# Altium footprint library GPS_PcbLib.PcbLib: 7 footprints
Each footprint in its own frame and in the unit in brackets; x right, y up, seen from the top. Pads: shape width x height; smd on the part's side, far side on the other; paste and mask are expansions set on the pad; w line width, h text height; cw(c..) or ccw(c..) is an arc to the next point about the centre after c.
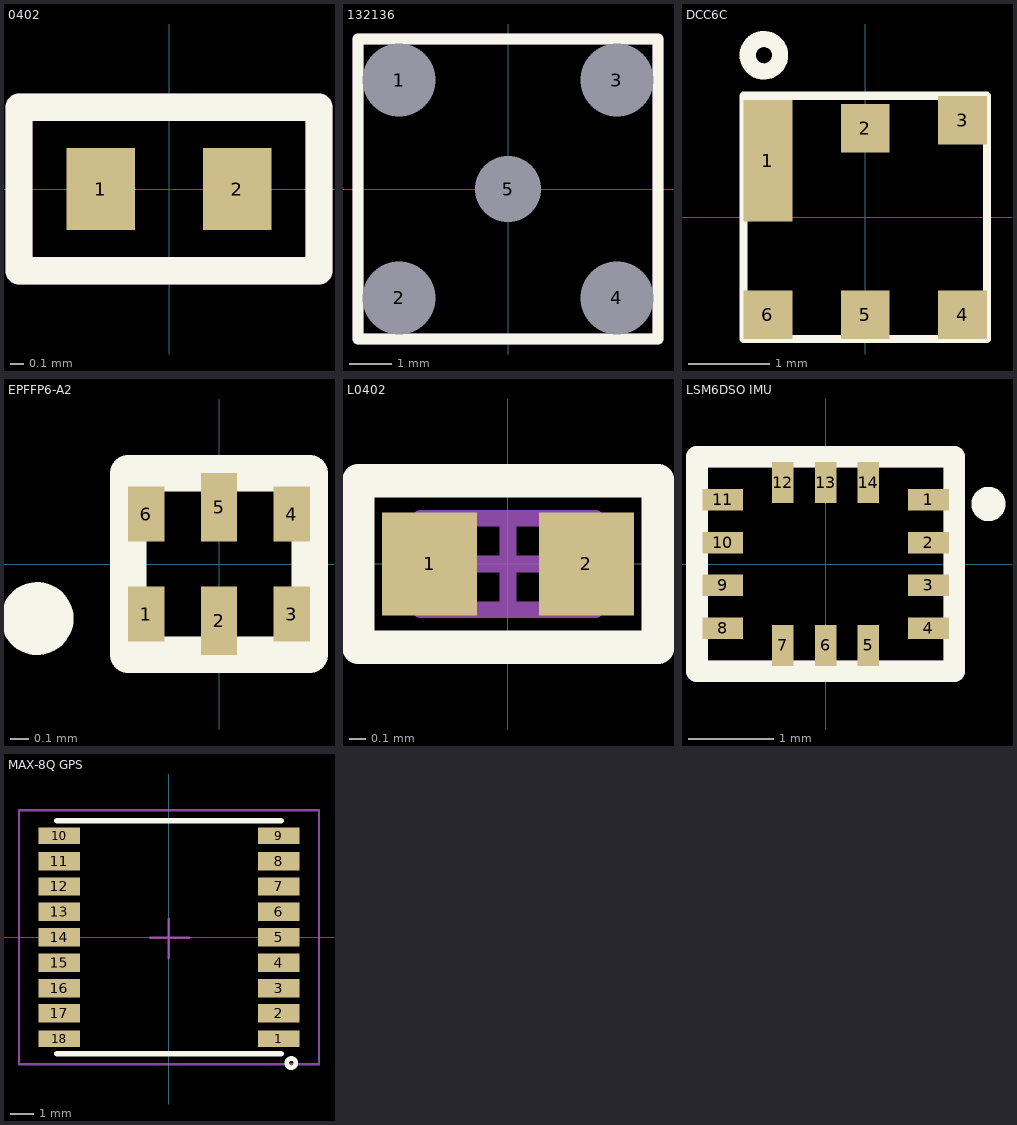
[diagram p0: the footprints below, top view; thin cyan lines are the x and y axes]

## 0402 [mm]
pads (2):
  rect 0.5x0.6 smd: 1(-0.5,0) 2(0.5,0)
Top Overlay:
  lines w0.2: -1.1,-0.6 1.1,-0.6 1.1,0.6 -1.1,0.6 -1.1,-0.6
Mechanical 5:
  lines w0.2: -1.1,-0.6 -1.1,0.6 1.1,0.6 1.1,-0.6 -1.1,-0.6

## 132136 [mm]
pads (5):
  round 1.55 hole 1.7: 1(-2.54,2.54) 2(-2.54,-2.54) 3(2.54,2.54) 4(2.54,-2.54)
  round 1.45 hole 1.55: 5(0,0)
Top Overlay:
  lines w0.254: -3.5,-3.5 -3.5,3.5 3.5,3.5 3.5,-3.5 -3.5,-3.5
Mechanical 5:
  lines w0.254: -3.5,-3.5 3.5,-3.5 3.5,3.5 -3.5,3.5 -3.5,-3.5
3D body "132136-12.stp": height 9.37, standoff -4.43, extent -3.52,-3.475 3.48,11.625

## DCC6C [mm] "footprint for B39162B3913U410CT-ND"
pads (6):
  rect 0.6x1.5 smd mask+0.102: 1(-1.2,0.7)
  rect 0.6x0.6 smd mask+0.102: 2(0,1.1) 3(1.2,1.2) 4(1.2,-1.2) 5(0,-1.2) 6(-1.2,-1.2)
Top Overlay:
  circle w0.2: c-1.25,2 r0.2
  lines w0.1: -1.5,-1.5 -1.5,1.5 1.5,1.5 1.5,-1.5 -1.5,-1.5

## EPFFP6-A2 [mm] "Footprint for NJG1143UA2"
pads (6):
  rect 0.2x0.3 smd mask+0.05: 1(-0.4,-0.275) 3(0.4,-0.275) 4(0.4,0.275) 6(-0.4,0.275)
  rect 0.2x0.375 smd mask+0.05: 2(0,-0.312) 5(0,0.313)
Top Overlay:
  circle w0.2: c-1,-0.3 r0.1
  lines w0.2: -0.5,-0.5 -0.5,0.5 0.5,0.5 0.5,0.25 0.5,-0.25 0.5,-0.5 -0.5,-0.5
Mechanical 13:
  text ".Designator" at -2.4,0.725 h0.8

## L0402 [mm] "Chip Inductor, 2-Leads, Body 1.00x0.50mm, IPC Medium Density"
height 0.5
pads (2):
  rect 0.57x0.62 smd: 1(-0.47,0) 2(0.47,0)
Top Overlay:
  lines w0.2: -0.9,-0.5 0.9,-0.5 0.9,0.5 -0.9,0.5 -0.9,-0.5
Mechanical 13:
  lines w0.1: -0.525,-0.275 -0.525,0.275 0.525,0.275 0.525,-0.275 -0.525,-0.275
Mechanical 15:
  lines w0.1: -0.275,0 0.275,0 ; 0,-0.275 0,0.275
3D body: height 0.5, standoff 0, extent -0.275,-0.275 0.275,0.275
3D body: height 0.5, standoff 0, extent -0.525,-0.275 -0.275,0.275
3D body: height 0.5, standoff 0, extent 0.275,-0.275 0.525,0.275

## LSM6DSO IMU [mm]
pads (14):
  rect 0.475x0.25 smd: 1(1.2,0.75) 2(1.2,0.25) 3(1.2,-0.25) 4(1.2,-0.75) 8(-1.2,-0.75) 9(-1.2,-0.25) 10(-1.2,0.25) 11(-1.2,0.75)
  rect 0.25x0.475 smd: 5(0.5,-0.95) 6(0,-0.95) 7(-0.5,-0.95) 12(-0.5,0.95) 13(0,0.95) 14(0.5,0.95)
Top Overlay:
  circle w0.2: c1.9,0.7 r0.1
  lines w0.254: -1.5,-1.25 -1.5,1.25 1.5,1.25 1.5,-1.25 -1.5,-1.25
Mechanical 5:
  lines w0.254: -1.5,-1.25 1.5,-1.25 1.5,1.25 -1.5,1.25 -1.5,-1.25

## MAX-8Q GPS [mm]
pads (18):
  rect 1.8x0.7 smd paste-10: 1(4.75,-4.4) 9(4.75,4.4) 10(-4.75,4.4) 18(-4.75,-4.4)
  rect 1.8x0.8 smd paste-10: 2(4.75,-3.3) 3(4.75,-2.2) 4(4.75,-1.1) 5(4.75,0) 6(4.75,1.1) 7(4.75,2.2) 8(4.75,3.3) 11(-4.75,3.3) 12(-4.75,2.2) 13(-4.75,1.1) 14(-4.75,0) 15(-4.75,-1.1) 16(-4.75,-2.2) 17(-4.75,-3.3)
Top Overlay:
  circle w0.2: c5.3,-5.45 r0.2
  lines w0.254: -4.85,-5.05 4.85,-5.05 ; -4.85,5.05 4.85,5.05
Top Paste:
  region: 6.25,2.9 6.25,3.7 4.85,3.7 4.85,3.6 3.95,3.6 3.95,3 4.85,3 4.85,2.9
  region: 6.25,1.8 6.25,2.6 4.85,2.6 4.85,2.5 3.95,2.5 3.95,1.9 4.85,1.9 4.85,1.8
  region: 6.25,0.7 6.25,1.5 4.85,1.5 4.85,1.4 3.95,1.4 3.95,0.8 4.85,0.8 4.85,0.7
  region: 6.25,-0.4 6.25,0.4 4.85,0.4 4.85,0.3 3.95,0.3 3.95,-0.3 4.85,-0.3 4.85,-0.4
  region: 6.25,-1.5 6.25,-0.7 4.85,-0.7 4.85,-0.8 3.95,-0.8 3.95,-1.4 4.85,-1.4 4.85,-1.5
  region: 6.25,-2.6 6.25,-1.8 4.85,-1.8 4.85,-1.9 3.95,-1.9 3.95,-2.5 4.85,-2.5 4.85,-2.6
  region: 6.25,-3.7 6.25,-2.9 4.85,-2.9 4.85,-3 3.95,-3 3.95,-3.6 4.85,-3.6 4.85,-3.7
  region: -6.25,-2.9 -6.25,-3.7 -4.85,-3.7 -4.85,-3.6 -3.95,-3.6 -3.95,-3 -4.85,-3 -4.85,-2.9
  region: -6.25,-1.8 -6.25,-2.6 -4.85,-2.6 -4.85,-2.5 -3.95,-2.5 -3.95,-1.9 -4.85,-1.9 -4.85,-1.8
  region: -6.25,-0.7 -6.25,-1.5 -4.85,-1.5 -4.85,-1.4 -3.95,-1.4 -3.95,-0.8 -4.85,-0.8 -4.85,-0.7
  region: -6.25,0.4 -6.25,-0.4 -4.85,-0.4 -4.85,-0.3 -3.95,-0.3 -3.95,0.3 -4.85,0.3 -4.85,0.4
  region: -6.25,1.5 -6.25,0.7 -4.85,0.7 -4.85,0.8 -3.95,0.8 -3.95,1.4 -4.85,1.4 -4.85,1.5
  region: -6.25,2.6 -6.25,1.8 -4.85,1.8 -4.85,1.9 -3.95,1.9 -3.95,2.5 -4.85,2.5 -4.85,2.6
  region: -6.25,3.7 -6.25,2.9 -4.85,2.9 -4.85,3 -3.95,3 -3.95,3.6 -4.85,3.6 -4.85,3.7
  region: -6.25,-4.05 -6.25,-4.75 -4.85,-4.75 -4.85,-4.65 -3.95,-4.65 -3.95,-4.15 -4.85,-4.15 -4.85,-4.05
  region: 6.25,-4.75 6.25,-4.05 4.85,-4.05 4.85,-4.15 3.95,-4.15 3.95,-4.65 4.85,-4.65 4.85,-4.75
  region: 6.25,4.05 6.25,4.75 4.85,4.75 4.85,4.65 3.95,4.65 3.95,4.15 4.85,4.15 4.85,4.05
  region: -6.25,4.75 -6.25,4.05 -4.85,4.05 -4.85,4.15 -3.95,4.15 -3.95,4.65 -4.85,4.65 -4.85,4.75
Mechanical 13:
  text ".Designator" at -5,6 h1
Mechanical 15:
  lines w0.1: -0.822,-0.023 -0.007,-0.023 ; -0.007,-0.918 -0.007,-0.023 ; -0.007,0.775 -0.007,-0.023 ; 0.871,-0.023 -0.007,-0.023 ; -6.5,-5.5 6.5,-5.5 6.5,5.5 -6.5,5.5 -6.5,-5.5
3D body: height 2.7, standoff 0, extent -4.851,-5.05 4.849,5.05